# Altium schematic symbol library SS26FL.Schlib: 1 symbol
Pins are listed as number, name and electrical type; pins without a type are passive.

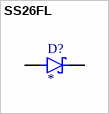
[diagram p0: symbol SS26FL]

## SS26FL
designator D?
Diode Schottky 60 V 2A Surface Mount SOD-123F
pins: 1 K, 2 A